# Altium footprint library Power Distribution Board PCB Lib.PcbLib: 19 footprints (part 2 of 2)
Each footprint in its own frame and in the unit in brackets; x right, y up, seen from the top. Pads: shape width x height; smd on the part's side, far side on the other; paste and mask are expansions set on the pad; w line width, h text height; cw(c..) or ccw(c..) is an arc to the next point about the centre after c.
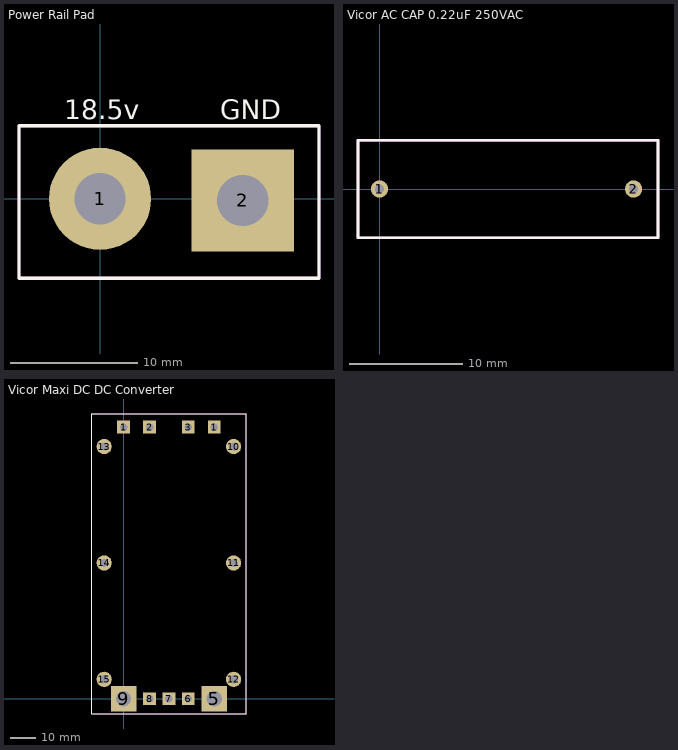
[diagram p1: the footprints below, top view; thin cyan lines are the x and y axes]

## Power Rail Pad [mm] "Custom pad for WAVE power rails"
pads (2):
  round 8 hole 4: 1(0,0)
  rect 8x8 hole 4: 2(11.176,-0.127)
Top Overlay:
  lines w0.254: -6.35,-6.223 -6.35,-6.096 -6.35,5.715 17.145,5.715 17.145,-6.223 -6.35,-6.223
  text "GND" at 9.398,6.223 h1.52
  text "18.5v" at -2.794,6.223 h1.52
Mechanical 13:
  lines w0.254: -6.35,-6.223 -6.35,5.715 17.145,5.715 17.145,-6.223 -6.35,-6.223

## Vicor AC CAP 0.22uF 250VAC [mil] "Vicor AC CAP"
height 649
pads (2):
  round 60 hole 31: 1(0,0) 2(885,0)
Top Overlay:
  lines w10: -75,-170 970,-170 970,170 -75,170 -75,-170
Mechanical 1:
  lines w10: -75,-170 970,-170 970,169 -75,169 -75,-165 -75,-170

## Vicor Maxi DC DC Converter [mm] "Vicor Maxi DC DC Converter"
height 10.9
pads (15):
  rect 5x5 hole 2.96: 1(0,106.7) 1(35.6,106.7) 2(10.2,106.7) 3(25.4,106.7) 6(25.4,0) 7(17.8,0) 8(10.2,0)
  rect 10x10 hole 5.96: 5(35.6,0) 9(0,0)
  round 6 hole 3.28: 10(43.22,99.06) 11(43.22,53.34) 12(43.22,7.62) 13(-7.62,99.06) 14(-7.62,53.34) 15(-7.62,7.62)
Top Overlay:
  lines w0.254: -12.446,-6 48.133,-6 48.133,111.84 -12.446,111.84 -12.446,-6
Mechanical 1:
  lines w0.254: -12.446,-6 -12.446,111.84 48.133,111.84 48.133,-6 -12.446,-6